# Altium footprint library Battery Holder.PcbLib: 7 footprints
Each footprint in its own frame and in the unit in brackets; x right, y up, seen from the top. Pads: shape width x height; smd on the part's side, far side on the other; paste and mask are expansions set on the pad; w line width, h text height; cw(c..) or ccw(c..) is an arc to the next point about the centre after c.
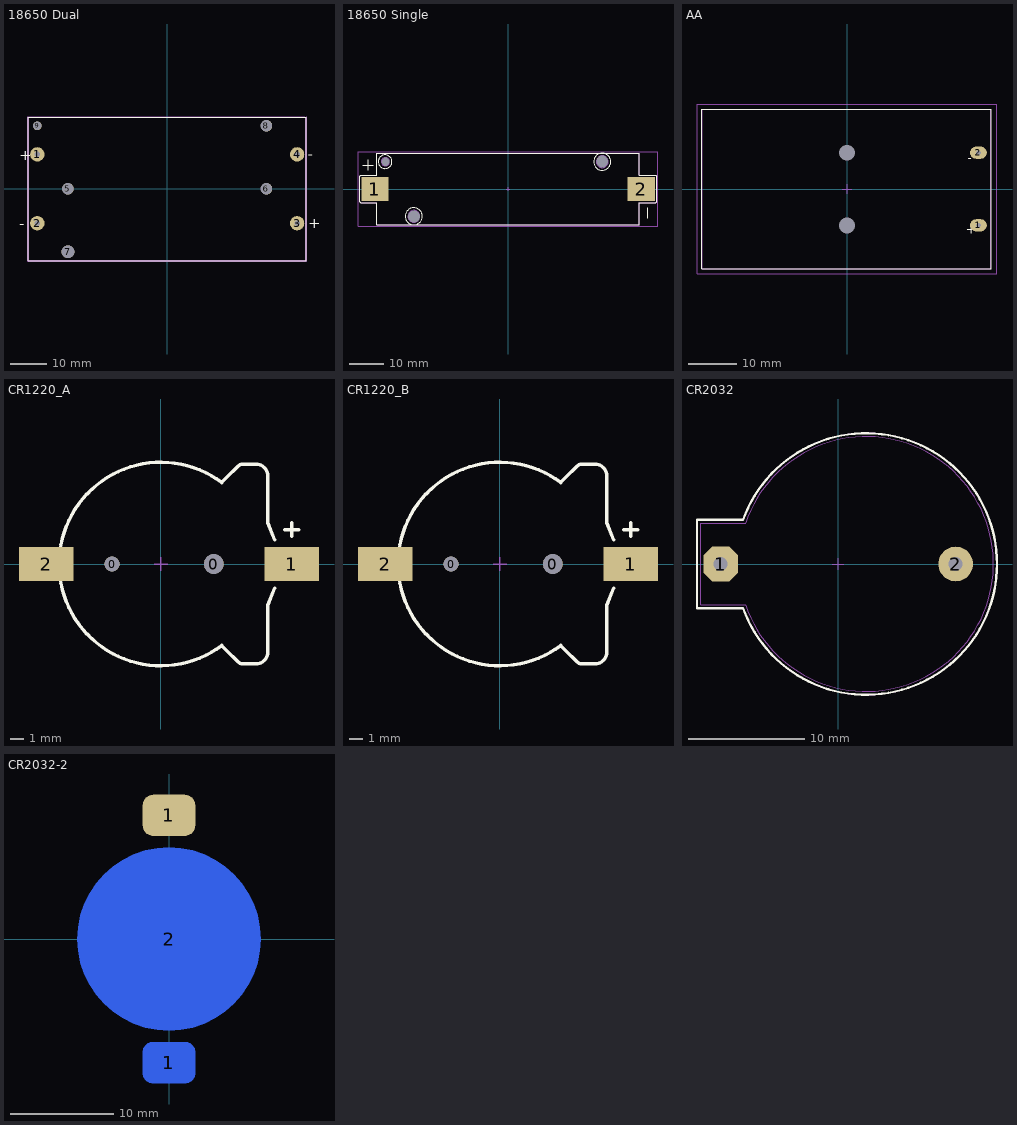
[diagram p0: the footprints below, top view; thin cyan lines are the x and y axes]

## 18650 Dual [mm] "Holder for Dual 18650 Batteries P/N 1049"
height 20
pads (9):
  round 4 hole 1.5: 1(-36.11,9.565) 2(-36.11,-9.565) 3(36.11,-9.565) 4(36.11,9.565)
  round 3.2 hole 3.2: 5(-27.6,0) 6(27.6,0) 8(27.6,17.515)
  round 3.55 hole 3.55: 7(-27.6,-17.515)
  round 2.4 hole 2.4: 9(-36.11,17.515)
Top Overlay:
  lines w0.2: -38.6,-20 38.6,-20 38.6,19.9 -38.6,19.9 -38.6,-20
  text "-" at 39.1,8.2 h3
  text "+" at 39.2,-10.9 h3
  text "-" at -41.1,-11.1 h3
  text "+" at -41.2,8 h3
Mechanical 1:
  lines w0.05: -38.51,-19.923 38.546,-19.923 38.546,19.85 -38.51,19.85 -38.51,-19.923
  lines w0.1: -38.51,19.85 -38.51,-19.923 38.546,-19.923 38.546,19.85 38.543,19.853 -38.51,19.853
Mechanical 15:
  lines w0.1: 38.256,20.1 -38.8,20.1 -38.8,-20.2 38.8,-20.2 38.8,20.1
3D body "keystone-PN1049.STEP": height 15.78, standoff -2.61, extent -38.51,-19.923 38.546,19.853

## 18650 Single [mm]
height 22
pads (5):
  round 1.524 hole 2.4: 0(-35.93,8)
  round 1.524 hole 3.5: 0(-27.6,-8) 0(27.6,8)
  rect 8x7 smd: 1(-39,0) 2(39,0)
Top Overlay:
  circle w0.2: c27.6,8 r2.5
  circle w0.2: c-27.6,-8 r2.5
  circle w0.2: c-36,8 r2
  lines w0.2: -42.5,7 -39.5,7 ; -41,5.5 -41,8.5 ; 41,-8.5 41,-5.5 ; 43.5,-3.7 43.5,3.7 ; 43.5,-3.7 43.2,-4 38.5,-4 38.5,-10.5 -38.5,-10.5 -38.5,-4 -43.2,-4 -43.5,-3.7 -43.5,3.7 -43.2,4 -38.5,4 -38.5,10.5 38.5,10.5 38.5,4 43.2,4 43.5,3.7 ; 43.5,-3.7 43.5,3.7
Mechanical 1:
  circle w0.254: c-35.93,8 r1.2
  circle w0.254: c-27.6,-8 r1.75
  circle w0.254: c27.6,8 r1.75
  lines w0.1: -43.5,-3.7 -43.5,3.7 -43.2,4 -38.5,4 -38.5,10.5 38.5,10.5 38.5,4 43.2,4 43.5,3.7 43.5,-3.7 43.2,-4 38.5,-4 38.5,-10.5 -38.5,-10.5 -38.5,-4 -43.2,-4 -43.5,-3.7
Mechanical 15:
  lines w0.1: -0.5,0 0.5,0 ; 0,-0.5 0,0.5 ; -43.953,-10.922 -43.953,10.922 43.931,10.922 43.931,-10.922 -43.953,-10.922
3D body "keystone-PN1042.STEP": height 15.01, standoff -3.28, extent -43,-10.35 43.004,10.3

## AA [mm]
height 16
pads (4):
  oval 3.5x2.5 hole 1.02 unplated: 1(27.165,-7.495) 2(27.165,7.495)
  rect 0x0 hole 3.3 unplated: M(-0.015,-7.495) M(-0.015,7.495)
Top Overlay:
  lines w0.2: -30,-16.5 29.8,-16.5 29.8,16.5 -30,16.5 -30,-16.5
  text "-" at 25,5 h3
  text "+" at 24.5,-10 h3.5
Mechanical 1:
  lines w0.2: -29.959,-16.459 -29.959,16.459 29.755,16.459 29.755,-16.459 -29.959,-16.459
Mechanical 15:
  lines w0.2: -1,0 1,0 ; 0,-1 0,1 ; -31,-17.5 31,-17.5 31,17.5 -31,17.5 -31,-17.5
3D body "Keystone 2462 Twin AA.STEP": height 16, standoff -11.99, extent -29.959,-16.459 29.755,16.459

## CR1220_A [mm]
pads (4):
  round 1.1 hole 1.1: 0(-3.6,0)
  round 1.45 hole 1.45: 0(3.9,0)
  rect 4x2.5 smd: 1(9.652,0) 2(-8.458,0)
Top Overlay:
  lines w0.254: 4.5,-6 cw(c0,0) 4.5,6 ; 4.572,-6.096 4.826,-6.35 5.662,-7.186 ccw(c6.096,-6.753) 6.096,-7.366 7.007,-7.366 ccw(c7.007,-6.499) 7.874,-6.499 7.874,-3.048 8.382,-1.778 ; 4.572,6.096 4.826,6.35 5.662,7.186 cw(c6.096,6.753) 6.096,7.366 7.007,7.366 cw(c7.007,6.499) 7.874,6.499 7.874,3.048 8.382,1.778 ; 9.144,2.54 10.16,2.54 ; 9.652,2.032 9.652,3.048
Mechanical 15:
  lines w0.1: -0.508,0 0.508,0 ; 0,-0.508 0,0.508
3D body "CR1220_A.STEP": height 4.05, standoff -0.85, extent -9.416,-7.45 10.34,7.45

## CR1220_B [mm]
pads (4):
  round 1.1 hole 1.1: 0(-3.6,0)
  round 1.45 hole 1.45: 0(3.9,0)
  rect 4x2.5 smd: 1(9.652,0) 2(-8.458,0)
Top Overlay:
  lines w0.254: 4.5,-6 cw(c0,0) 4.5,6 ; 4.572,-6.096 4.826,-6.35 5.662,-7.186 ccw(c6.096,-6.753) 6.096,-7.366 7.007,-7.366 ccw(c7.007,-6.499) 7.874,-6.499 7.874,-3.048 8.382,-1.778 ; 4.572,6.096 4.826,6.35 5.662,7.186 cw(c6.096,6.753) 6.096,7.366 7.007,7.366 cw(c7.007,6.499) 7.874,6.499 7.874,3.048 8.382,1.778 ; 9.144,2.54 10.16,2.54 ; 9.652,2.032 9.652,3.048
Mechanical 15:
  lines w0.1: -0.508,0 0.508,0 ; 0,-0.508 0,0.508
3D body "CR1220_B.STEP": height 4.05, standoff -0.85, extent -9.416,-7.45 10.34,7.45

## CR2032 [mm]
height 9
pads (2):
  oct 3x3 hole 1.2: 1(-10.151,0)
  round 3 hole 1.2: 2(10.152,0)
Top Overlay:
  lines w0.2: -8.255,-3.81 -12.192,-3.81 -12.192,3.81 -8.255,3.81 ; -8.221,-3.798 ccw(c2.422,0) -8.221,3.798
Mechanical 1:
  lines w0.1: -7.992,-3.5 -11.848,-3.5 -11.848,3.5 -7.992,3.5 ; -7.989,-3.552 ccw(c2.422,0) -7.989,3.552
Mechanical 15:
  lines w0.1: -8.255,-3.81 -12.192,-3.81 -12.192,3.81 -8.255,3.81 ; -8.221,-3.798 ccw(c2.422,0) -8.221,3.798 ; -0.5,0 0.5,0 ; 0,-0.5 0,0.5
3D body "CH224-2032.step": height 8.5, standoff -4, extent -11.079,-11 13.421,11

## CR2032-2 [mm]
height 3.5
pads (3):
  rrect50% 5.1x4 smd far side: 1(0,-12)
  rrect50% 5.1x4 smd: 1(0,12)
  round 17.8 smd far side: 2(0,0)
3D body "User Library-cr2032B SMD.STEP": height 4, standoff -0.01, extent -10,-10.9 10.6,10.9